# EAGLE library part HEADER_SMD2X9 (library Traficon)
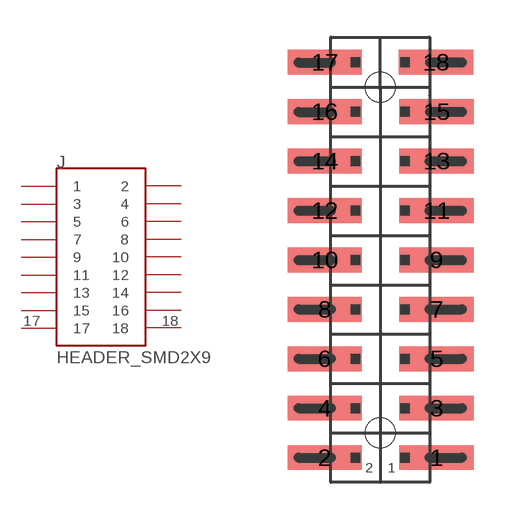
[diagram p112: symbol with the pads of 2MMHEAD_SMD2X9; footprint 2MMHEAD_SMD2X9]

Designator prefix J

## HEADER_SMD2X9  [2MMHEAD_SMD2X9]
1  1  pas
2  2  pas
3  3  pas
4  4  pas
5  5  pas
6  6  pas
7  7  pas
8  8  pas
9  9  pas
10  10  pas
11  11  pas
12  12  pas
13  13  pas
14  14  pas
15  15  pas
16  16  pas
17  17  pas
18  18  pas

## Footprint 2MMHEAD_SMD2X9 (pad centres in mm)
smd 3 x 1: 1 2.275,-8.006; 2 -2.245,-8.006; 3 2.275,-6.006; 4 -2.245,-6.006; 5 2.275,-4.006; 6 -2.245,-4.006; 7 2.275,-2.006; 8 -2.245,-2.006; 9 2.275,-0.006; 10 -2.245,-0.006; 11 2.275,1.994; 12 -2.245,1.994; 13 2.275,3.994; 14 -2.245,3.994; 15 2.275,5.994; 16 -2.245,5.994; 17 -2.245,7.994; 18 2.255,7.994
hole 1.2 at 0.003,6.991
hole 1.2 at 0,-6.995